# Altium footprint library 2020-10-28_07-41-47.PcbLib: 3 footprints
Each footprint in its own frame and in the unit in brackets; x right, y up, seen from the top. Pads: shape width x height; smd on the part's side, far side on the other; paste and mask are expansions set on the pad; w line width, h text height; cw(c..) or ccw(c..) is an arc to the next point about the centre after c.
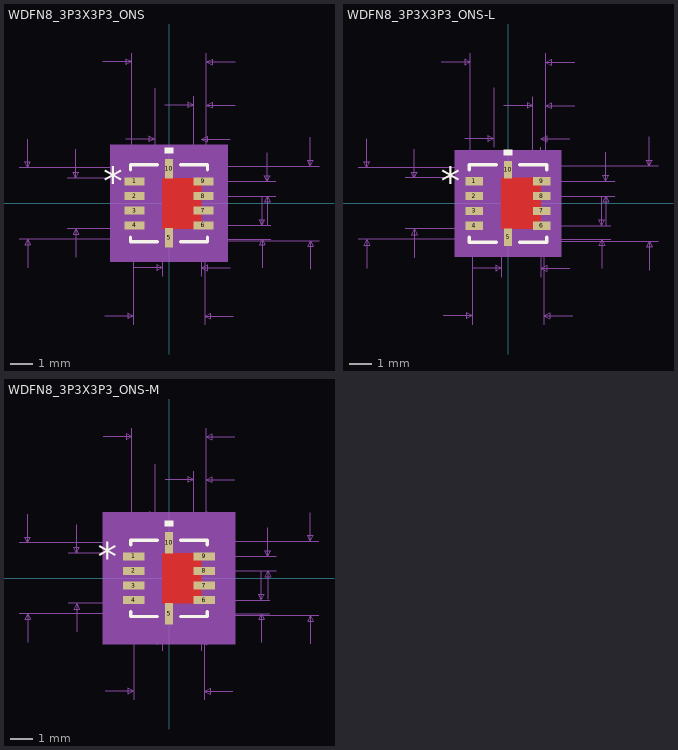
[diagram p0: the footprints below, top view; thin cyan lines are the x and y axes]

## WDFN8_3P3X3P3_ONS [mil]
pads (10):
  rect 34x14 smd paste+0 mask+0: 1(-60,38.39) 2(-60,12.8) 3(-60,-12.8) 4(-60,-38.39) 6(60,-38.39) 7(60,-12.8) 8(60,12.8) 9(60,38.39)
  rect 14x34 smd paste+0 mask+0: 5(0,-60) 10(0,60)
Top Layer:
  region: -11.5,-44 -11.5,44 56.5,44 56.5,-44
Top Overlay:
  region: 7.5,87 -7.5,87 -7.5,97 7.5,97
  lines w6: -67,-58.49 -67,-67 -20.1,-67 ; -67,58.49 -67,67 -20.1,67 ; 20.1,-67 67,-67 67,-58.49 ; 20.1,67 67,67 67,58.49
  text "*" at -114.5,13.39 h50
Top Paste:
  region: -11.5,-44 -11.5,44 56.5,44 56.5,-44
Top Solder:
  region: -11.5,-44 -11.5,44 56.5,44 56.5,-44
Mechanical 5:
  region: 102,-102 -102,-102 -102,102 102,102
Mechanical 7:
  lines w1: -261,-62 62,-62 ; -261,62 62,62 62,-211 ; -246,-112 -246,-62 ; -246,112 -246,62 ; -177,-44 -11.5,-44 -11.5,-127 ; -177,44 -11.5,44 ; -162,-94 -162,-44 ; -162,94 -162,44 ; -115,246 -65,246 ; -112,-196 -62,-196 ; -75,112 -25,112 ; -65,38.39 -65,261 ; -62,-211 -62,62 ; -61.5,-112 -11.5,-112 ; -25,97 -25,200 ; -7,171 43,171 ; 0,-65 261,-65 ; 0,-62 177,-62 ; 0,65 261,65 ; 43,38.39 43,186 ; 56.5,-127 56.5,-44 ; 56.5,44 56.5,97 ; 60,12.8 186,12.8 ; 60,38.39 186,38.39 ; 62,-38.39 177,-38.39 ; 65,186 65,38.39 65,261 ; 106.5,-112 56.5,-112 ; 106.5,112 56.5,112 ; 112,-196 62,-196 ; 115,171 65,171 ; 115,246 65,246 ; 162,-112 162,-62 ; 162,11.61 162,-38.39 ; 171,-37.2 171,12.8 ; 171,88.39 171,38.39 ; 246,-115 246,-65 ; 246,115 246,65 ; -246,-62 -251,-72 -241,-72 -246,-62 ; -246,62 -251,72 -241,72 -246,62 ; -162,-44 -167,-54 -157,-54 -162,-44 ; -162,44 -167,54 -157,54 -162,44 ; -65,246 -75,251 -75,241 -65,246 ; -62,-196 -72,-191 -72,-201 -62,-196 ; -25,112 -35,117 -35,107 -25,112 ; -11.5,-112 -21.5,-107 -21.5,-117 -11.5,-112 ; 43,171 33,176 33,166 43,171 ; 56.5,-112 66.5,-107 66.5,-117 56.5,-112 ; 56.5,112 66.5,117 66.5,107 56.5,112 ; 62,-196 72,-191 72,-201 62,-196 ; 65,171 75,176 75,166 65,171 ; 65,246 75,251 75,241 65,246 ; 162,-62 157,-72 167,-72 162,-62 ; 162,-38.39 157,-28.39 167,-28.39 162,-38.39 ; 171,12.8 166,2.8 176,2.8 171,12.8 ; 171,38.39 166,48.39 176,48.39 171,38.39 ; 246,-65 241,-75 251,-75 246,-65 ; 246,65 241,75 251,75 246,65
  text "Default Padstyle: RX14Y34D0T" at -350,-321 h50
  text "Heat Tab 1 Padstyle: RX68Y88D0T" at -387.5,-381 h50
  text "Alt 1 Padstyle: OX60Y90D30P" at -337.5,-741 h50
  text "Alt 2 Padstyle: OX90Y60D30P" at -337.5,-801 h50
  text "0.026in/0.65mm" at 83.5,13.09 h25
  text "0.022in/0.559mm" at -39.75,191 h25
  text "0.13in/3.302mm" at -87.5,266 h25
  text "0.13in/3.302mm" at 266,-12.5 h25
  text "0.124in/3.15mm" at -441,-12.5 h25
  text "0.124in/3.15mm" at -87.5,-241 h25
  text "0.068in/1.727mm" at -71.25,-157 h25
  text "0.088in/2.235mm" at -255.75,-20 h25
  text "-0.081in/-2.07mm" at -100,132 h25
  text "0.024in/0.6mm" at 80.75,-56.5 h25
Mechanical 13:
  lines w1: -62,12 -12,62 ; -65,-46.39 -65,-30.39 -62,-30.39 -62,-46.39 -65,-46.39 ; -65,-20.8 -65,-4.8 -62,-4.8 -62,-20.8 -65,-20.8 ; -65,4.8 -65,20.8 -62,20.8 -62,4.8 -65,4.8 ; -65,30.39 -65,46.39 -62,46.39 -62,30.39 -65,30.39 ; -62,-62 62,-62 62,62 -62,62 -62,-62 ; -8,-65 -8,-62 8,-62 8,-65 -8,-65 ; -8,62 8,62 8,65 -8,65 -8,62 ; 62,-46.39 62,-30.39 65,-30.39 65,-46.39 62,-46.39 ; 62,-20.8 62,-4.8 65,-4.8 65,-20.8 62,-20.8 ; 62,4.8 62,20.8 65,20.8 65,4.8 62,4.8 ; 62,30.39 62,46.39 65,46.39 65,30.39 62,30.39
  text "*" at -30.5,13.39 h50
Mechanical 15:
  region: -17,-72 -72,-72 -72,-55.39 -87,-55.39 -87,55.39 -72,55.39 -72,72 -17,72 -17,87 17,87 17,72 72,72 72,55.39 87,55.39 87,-55.39 72,-55.39 72,-72 17,-72 17,-87 -17,-87
  lines w6: -87,-55.39 -72,-55.39 -72,-72 -17,-72 -17,-87 17,-87 17,-72 72,-72 72,-55.39 87,-55.39 87,55.39 72,55.39 72,72 17,72 17,87 -17,87 -17,72 -72,72 -72,55.39 -87,55.39 -87,-55.39
3D body: height 10, standoff 0, extent 0,0 10,10

## WDFN8_3P3X3P3_ONS-L [mil]
pads (10):
  rect 30x14 smd paste+0 mask+0: 1(-58,38.39) 2(-58,12.8) 3(-58,-12.8) 4(-58,-38.39) 6(58,-38.39) 7(58,-12.8) 8(58,12.8) 9(58,38.39)
  rect 14x30 smd paste+0 mask+0: 5(0,-58) 10(0,58)
Top Layer:
  region: -11.5,-44 -11.5,44 56.5,44 56.5,-44
Top Overlay:
  region: 7.5,83 -7.5,83 -7.5,93 7.5,93
  lines w6: -67,-58.49 -67,-67 -20.1,-67 ; -67,58.49 -67,67 -20.1,67 ; 20.1,-67 67,-67 67,-58.49 ; 20.1,67 67,67 67,58.49
  text "*" at -116.5,13.39 h50
Top Paste:
  region: -11.5,-44 -11.5,44 56.5,44 56.5,-44
Top Solder:
  region: -11.5,-44 -11.5,44 56.5,44 56.5,-44
Mechanical 5:
  region: 92,-92 -92,-92 -92,92 92,92
Mechanical 7:
  lines w1: -259,-62 62,-62 ; -259,62 62,62 62,-209 ; -244,-112 -244,-62 ; -244,112 -244,62 ; -177,-44 -11.5,-44 -11.5,-127 ; -177,44 -11.5,44 ; -162,-94 -162,-44 ; -162,94 -162,44 ; -115,244 -65,244 ; -112,-194 -62,-194 ; -75,112 -25,112 ; -65,38.39 -65,259 ; -62,-209 -62,62 ; -61.5,-112 -11.5,-112 ; -25,97 -25,200 ; -7,169 43,169 ; 0,-65 259,-65 ; 0,-62 177,-62 ; 0,65 259,65 ; 43,38.39 43,184 ; 56.5,-127 56.5,-44 ; 56.5,44 56.5,97 ; 58,12.8 184,12.8 ; 58,38.39 184,38.39 ; 62,-38.39 177,-38.39 ; 65,184 65,38.39 65,259 ; 106.5,-112 56.5,-112 ; 106.5,112 56.5,112 ; 112,-194 62,-194 ; 115,169 65,169 ; 115,244 65,244 ; 162,-112 162,-62 ; 162,11.61 162,-38.39 ; 169,-37.2 169,12.8 ; 169,88.39 169,38.39 ; 244,-115 244,-65 ; 244,115 244,65 ; -244,-62 -249,-72 -239,-72 -244,-62 ; -244,62 -249,72 -239,72 -244,62 ; -162,-44 -167,-54 -157,-54 -162,-44 ; -162,44 -167,54 -157,54 -162,44 ; -65,244 -75,249 -75,239 -65,244 ; -62,-194 -72,-189 -72,-199 -62,-194 ; -25,112 -35,117 -35,107 -25,112 ; -11.5,-112 -21.5,-107 -21.5,-117 -11.5,-112 ; 43,169 33,174 33,164 43,169 ; 56.5,-112 66.5,-107 66.5,-117 56.5,-112 ; 56.5,112 66.5,117 66.5,107 56.5,112 ; 62,-194 72,-189 72,-199 62,-194 ; 65,169 75,174 75,164 65,169 ; 65,244 75,249 75,239 65,244 ; 162,-62 157,-72 167,-72 162,-62 ; 162,-38.39 157,-28.39 167,-28.39 162,-38.39 ; 169,12.8 164,2.8 174,2.8 169,12.8 ; 169,38.39 164,48.39 174,48.39 169,38.39 ; 244,-65 239,-75 249,-75 244,-65 ; 244,65 239,75 249,75 244,65
  text "Default Padstyle: RX14Y30D0T" at -350,-319 h50
  text "Heat Tab 1 Padstyle: RX68Y88D0T" at -387.5,-379 h50
  text "Alt 1 Padstyle: OX60Y90D30P" at -337.5,-739 h50
  text "Alt 2 Padstyle: OX90Y60D30P" at -337.5,-799 h50
  text "0.026in/0.65mm" at 81.5,13.09 h25
  text "0.022in/0.559mm" at -39.75,189 h25
  text "0.13in/3.302mm" at -87.5,264 h25
  text "0.13in/3.302mm" at 264,-12.5 h25
  text "0.124in/3.15mm" at -439,-12.5 h25
  text "0.124in/3.15mm" at -87.5,-239 h25
  text "0.068in/1.727mm" at -71.25,-157 h25
  text "0.088in/2.235mm" at -255.75,-20 h25
  text "-0.081in/-2.07mm" at -100,132 h25
  text "0.024in/0.6mm" at 80.75,-54.5 h25
Mechanical 13:
  lines w1: -62,12 -12,62 ; -65,-46.39 -65,-30.39 -62,-30.39 -62,-46.39 -65,-46.39 ; -65,-20.8 -65,-4.8 -62,-4.8 -62,-20.8 -65,-20.8 ; -65,4.8 -65,20.8 -62,20.8 -62,4.8 -65,4.8 ; -65,30.39 -65,46.39 -62,46.39 -62,30.39 -65,30.39 ; -62,-62 62,-62 62,62 -62,62 -62,-62 ; -8,-65 -8,-62 8,-62 8,-65 -8,-65 ; -8,62 8,62 8,65 -8,65 -8,62 ; 62,-46.39 62,-30.39 65,-30.39 65,-46.39 62,-46.39 ; 62,-20.8 62,-4.8 65,-4.8 65,-20.8 62,-20.8 ; 62,4.8 62,20.8 65,20.8 65,4.8 62,4.8 ; 62,30.39 62,46.39 65,46.39 65,30.39 62,30.39
  text "*" at -24.5,13.39 h50
Mechanical 15:
  region: -11,-66 -66,-66 -66,-49.39 -77,-49.39 -77,49.39 -66,49.39 -66,66 -11,66 -11,77 11,77 11,66 66,66 66,49.39 77,49.39 77,-49.39 66,-49.39 66,-66 11,-66 11,-77 -11,-77
  lines w6: -77,-49.39 -66,-49.39 -66,-66 -11,-66 -11,-77 11,-77 11,-66 66,-66 66,-49.39 77,-49.39 77,49.39 66,49.39 66,66 11,66 11,77 -11,77 -11,66 -66,66 -66,49.39 -77,49.39 -77,-49.39
3D body: height 10, standoff 0, extent 0,0 10,10

## WDFN8_3P3X3P3_ONS-M [mil]
pads (10):
  rect 38x14 smd paste+0 mask+0: 1(-62,38.39) 2(-62,12.8) 3(-62,-12.8) 4(-62,-38.39) 6(62,-38.39) 7(62,-12.8) 8(62,12.8) 9(62,38.39)
  rect 14x38 smd paste+0 mask+0: 5(0,-62) 10(0,62)
Top Layer:
  region: -11.5,-44 -11.5,44 56.5,44 56.5,-44
Top Overlay:
  region: 7.5,91 -7.5,91 -7.5,101 7.5,101
  lines w6: -67,-58.49 -67,-67 -20.1,-67 ; -67,58.49 -67,67 -20.1,67 ; 20.1,-67 67,-67 67,-58.49 ; 20.1,67 67,67 67,58.49
  text "*" at -124.5,13.39 h50
Top Paste:
  region: -11.5,-44 -11.5,44 56.5,44 56.5,-44
Top Solder:
  region: -11.5,-44 -11.5,44 56.5,44 56.5,-44
Mechanical 5:
  region: 116,-116 -116,-116 -116,116 116,116
Mechanical 7:
  lines w1: -263,-62 62,-62 ; -263,62 62,62 62,-213 ; -248,-112 -248,-62 ; -248,112 -248,62 ; -177,-44 -11.5,-44 -11.5,-127 ; -177,44 -11.5,44 ; -162,-94 -162,-44 ; -162,94 -162,44 ; -115,248 -65,248 ; -112,-198 -62,-198 ; -75,112 -25,112 ; -65,38.39 -65,263 ; -62,-213 -62,62 ; -61.5,-112 -11.5,-112 ; -25,97 -25,200 ; -7,173 43,173 ; 0,-65 263,-65 ; 0,-62 177,-62 ; 0,65 263,65 ; 43,38.39 43,188 ; 56.5,-127 56.5,-44 ; 56.5,44 56.5,97 ; 62,-38.39 177,-38.39 ; 62,12.8 188,12.8 ; 62,38.39 188,38.39 ; 65,188 65,38.39 65,263 ; 106.5,-112 56.5,-112 ; 106.5,112 56.5,112 ; 112,-198 62,-198 ; 115,173 65,173 ; 115,248 65,248 ; 162,-112 162,-62 ; 162,11.61 162,-38.39 ; 173,-37.2 173,12.8 ; 173,88.39 173,38.39 ; 248,-115 248,-65 ; 248,115 248,65 ; -248,-62 -253,-72 -243,-72 -248,-62 ; -248,62 -253,72 -243,72 -248,62 ; -162,-44 -167,-54 -157,-54 -162,-44 ; -162,44 -167,54 -157,54 -162,44 ; -65,248 -75,253 -75,243 -65,248 ; -62,-198 -72,-193 -72,-203 -62,-198 ; -25,112 -35,117 -35,107 -25,112 ; -11.5,-112 -21.5,-107 -21.5,-117 -11.5,-112 ; 43,173 33,178 33,168 43,173 ; 56.5,-112 66.5,-107 66.5,-117 56.5,-112 ; 56.5,112 66.5,117 66.5,107 56.5,112 ; 62,-198 72,-193 72,-203 62,-198 ; 65,173 75,178 75,168 65,173 ; 65,248 75,253 75,243 65,248 ; 162,-62 157,-72 167,-72 162,-62 ; 162,-38.39 157,-28.39 167,-28.39 162,-38.39 ; 173,12.8 168,2.8 178,2.8 173,12.8 ; 173,38.39 168,48.39 178,48.39 173,38.39 ; 248,-65 243,-75 253,-75 248,-65 ; 248,65 243,75 253,75 248,65
  text "Default Padstyle: RX14Y38D0T" at -350,-323 h50
  text "Heat Tab 1 Padstyle: RX68Y88D0T" at -387.5,-383 h50
  text "Alt 1 Padstyle: OX60Y90D30P" at -337.5,-743 h50
  text "Alt 2 Padstyle: OX90Y60D30P" at -337.5,-803 h50
  text "0.026in/0.65mm" at 85.5,13.09 h25
  text "0.022in/0.559mm" at -39.75,193 h25
  text "0.13in/3.302mm" at -87.5,268 h25
  text "0.13in/3.302mm" at 268,-12.5 h25
  text "0.124in/3.15mm" at -443,-12.5 h25
  text "0.124in/3.15mm" at -87.5,-243 h25
  text "0.068in/1.727mm" at -71.25,-157 h25
  text "0.088in/2.235mm" at -255.75,-20 h25
  text "-0.081in/-2.07mm" at -100,132 h25
  text "0.024in/0.6mm" at 80.75,-58.5 h25
Mechanical 13:
  lines w1: -62,12 -12,62 ; -65,-46.39 -65,-30.39 -62,-30.39 -62,-46.39 -65,-46.39 ; -65,-20.8 -65,-4.8 -62,-4.8 -62,-20.8 -65,-20.8 ; -65,4.8 -65,20.8 -62,20.8 -62,4.8 -65,4.8 ; -65,30.39 -65,46.39 -62,46.39 -62,30.39 -65,30.39 ; -62,-62 62,-62 62,62 -62,62 -62,-62 ; -8,-65 -8,-62 8,-62 8,-65 -8,-65 ; -8,62 8,62 8,65 -8,65 -8,62 ; 62,-46.39 62,-30.39 65,-30.39 65,-46.39 62,-46.39 ; 62,-20.8 62,-4.8 65,-4.8 65,-20.8 62,-20.8 ; 62,4.8 62,20.8 65,20.8 65,4.8 62,4.8 ; 62,30.39 62,46.39 65,46.39 65,30.39 62,30.39
  text "*" at -24.5,13.39 h50
Mechanical 15:
  region: -27,-82 -82,-82 -82,-65.39 -101,-65.39 -101,65.39 -82,65.39 -82,82 -27,82 -27,101 27,101 27,82 82,82 82,65.39 101,65.39 101,-65.39 82,-65.39 82,-82 27,-82 27,-101 -27,-101
  lines w6: -101,-65.39 -82,-65.39 -82,-82 -27,-82 -27,-101 27,-101 27,-82 82,-82 82,-65.39 101,-65.39 101,65.39 82,65.39 82,82 27,82 27,101 -27,101 -27,82 -82,82 -82,65.39 -101,65.39 -101,-65.39
3D body: height 10, standoff 0, extent 0,0 10,10